# Altium schematic symbol library LTC1799.SchLib: 1 symbol
Pins are listed as number, name and electrical type; pins without a type are passive.

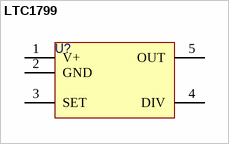
[diagram p0: symbol LTC1799]

## LTC1799
designator U?
pins: 1 V+ (power), 2 GND (power), 3 SET, 4 DIV, 5 OUT (power)